# EAGLE library part TPLINK_BACKPACK (library Heep)
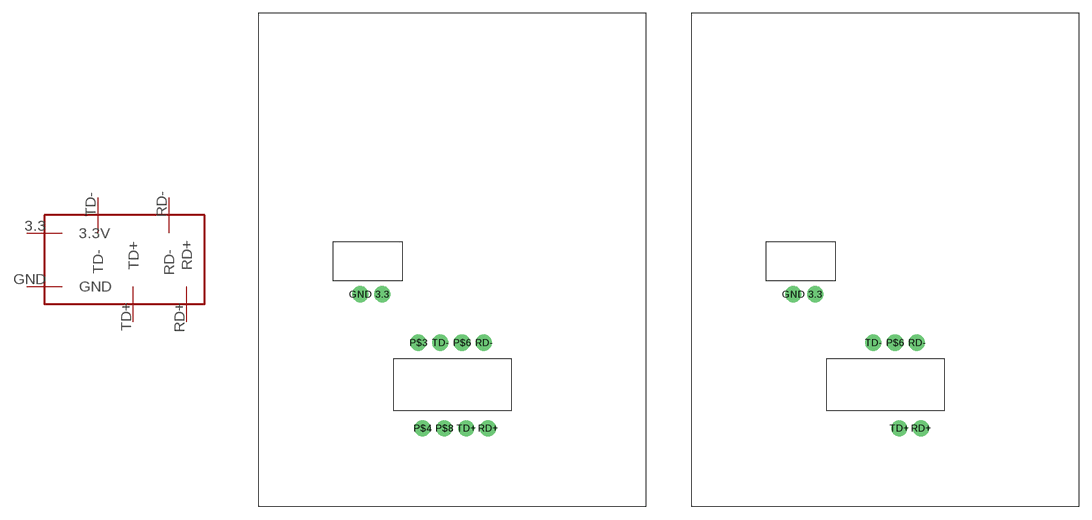
[diagram p0: symbol with the pads of BACKPACK_WITH_PROTO; footprints BACKPACK_WITH_PROTO, BACKPACK_MINIMAL_HOLES]

Designator prefix -

## TPLINK_BACKPACK  [BACKPACK_WITH_PROTO]
3.3  3.3V
GND  GND
RD+  RD+
RD-  RD-
TD+  TD+
TD-  TD-

## TPLINK_BACKPACKMINIMAL_HOLES  [BACKPACK_MINIMAL_HOLES]
Pads as for BACKPACK_WITH_PROTO

## Footprint BACKPACK_WITH_PROTO (pad centres in mm)
drill 1.016 pad 1.88: 3.3 14.357,24.729; GND 11.817,24.729; P$3 18.564,19.093; P$4 19.038,9.132; P$6 23.644,19.093; P$8 21.578,9.132; RD+ 26.658,9.132; RD- 26.184,19.093; TD+ 24.118,9.132; TD- 21.104,19.093

## Footprint BACKPACK_MINIMAL_HOLES (pad centres in mm)
drill 1.016 pad 1.88: 3.3 14.357,24.729; GND 11.817,24.729; P$6 23.644,19.093; RD+ 26.658,9.132; RD- 26.184,19.093; TD+ 24.118,9.132; TD- 21.104,19.093